# EAGLE library part VP1-1400-R (library Coiltronics_By_element14_Batch_1)
STD INDUCTOR, 89.6UH
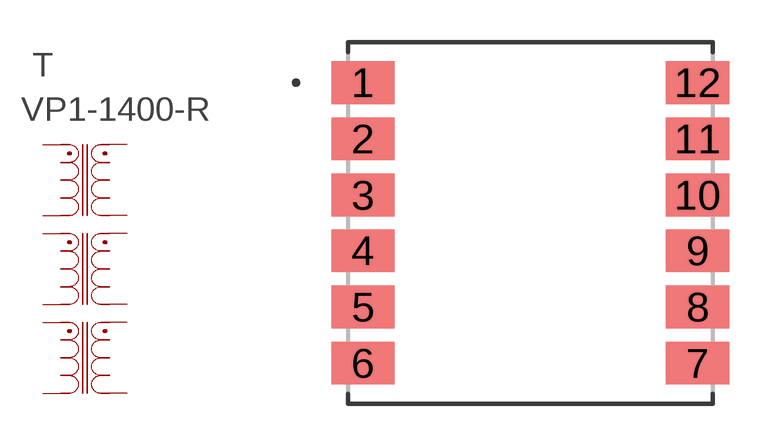
[diagram p3: symbol with the pads of XFMR_VP1-1400-R; footprint XFMR_VP1-1400-R]

Designator prefix T

## VP1-1400-R (CURRENT: 850mA; INDUCTANCE: 89.6µH; MPN: VP1-1400-R; OC_FARNELL: 1704129; OC_NEWARK: 52K7956; PACKAGE: SMD; SUPPLIER: Coiltronics; TOLERANCE: ±30%)  [XFMR_VP1-1400-R]
1  1  pas
2  2  pas
3  3  pas
4  4  pas
5  5  pas
6  6  pas
7  7  pas
8  8  pas
9  9  pas
10  10  pas
11  11  pas
12  12  pas

## Footprint XFMR_VP1-1400-R (pad centres in mm)
smd 2.261 x 1.524: 1 -5.969,5.004; 2 -5.969,2.997; 3 -5.969,0.991; 4 -5.969,-0.991; 5 -5.969,-2.997; 6 -5.969,-5.004; 7 5.969,-5.004; 8 5.969,-2.997; 9 5.969,-0.991; 10 5.969,0.991; 11 5.969,2.997; 12 5.969,5.004